# Altium schematic symbol library LM2675.SchLib: 1 symbol
Pins are listed as number, name and electrical type; pins without a type are passive.

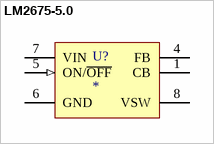
[diagram p0: symbol LM2675-5.0]

## LM2675-5.0
designator U?
IC, STEP-DOWN REGULATOR, 8-SOIC; farnell: 9489746
footprint LM2674 (SOP, 8-Leads, Body 5.0x4.0mm (max), Pitch 1.27mm, IPC Medium Density)
footprint LM2675 (SOP, 8-Leads, Body 5.0x4.0mm (max), Pitch 1.27mm, IPC Medium Density)
pins: 1 CB, 4 FB, 5 ON/~{OFF} (in), 6 GND (power), 7 VIN (power), 8 VSW (power)